# Altium integrated library MCP73871-2CCI_ML.IntLib: 1 symbol
Pins are listed as number, name and electrical type; pins without a type are passive.

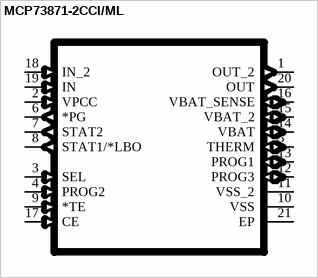
[diagram p0: symbol MCP73871-2CCI/ML]

## MCP73871-2CCI/ML
designator U?  (value not drawn)
Fully Integrated Single Cell Lithium Ion/Lithium Polymer Charge Management Contr; MF: Microchip; Price: 1.67 USD; Availability: Good; MP: MCP73871-2CCI/ML; Package: QFN-20 Microchip; Value: *
footprint QFN50P400X400X100-21N
pins: 1 OUT_2 (out), 2 VPCC (in), 3 SEL (in), 4 PROG2 (in), 5 THERM (io), 6 *PG (out), 7 STAT2 (out), 8 STAT1/*LBO (out), 9 *TE (in), 10 VSS (power), 11 VSS_2 (power), 12 PROG3 (io), 13 PROG1 (io), 14 VBAT (io), 15 VBAT_2 (io), 16 VBAT_SENSE (io), 17 CE (in), 18 IN_2 (in), 19 IN (in), 20 OUT (out), 21 EP